# EAGLE library part HC_05_MOD_2 (library ads1292_Dorokhov)
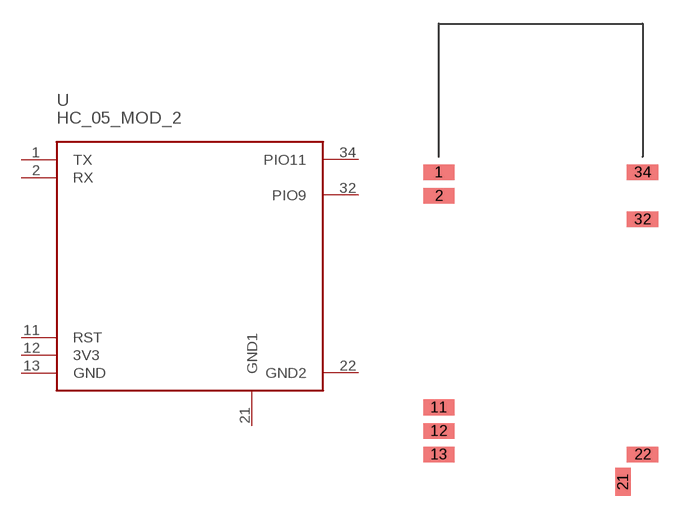
[diagram p2: symbol with the pads of BLUETOOTH_SMD_MOD2; footprint BLUETOOTH_SMD_MOD2]

Designator prefix -

## HC_05_MOD_2  [BLUETOOTH_SMD_MOD2]
1  TX
2  RX
11  RST
12  3V3
13  GND
21  GND1
22  GND2
32  PIO9
34  PIO11

## Footprint BLUETOOTH_SMD_MOD2 (pad centres in mm)
smd 2 x 1: 1 -6.35,6.35; 2 -6.35,4.85; 11 -6.35,-8.65; 12 -6.35,-10.15; 13 -6.35,-11.65; 22 6.65,-11.65; 32 6.65,3.35; 34 6.65,6.35
smd 1 x 1.8: 21 5.4,-13.4